# EAGLE library part N50P111 (library AMS-am5013)
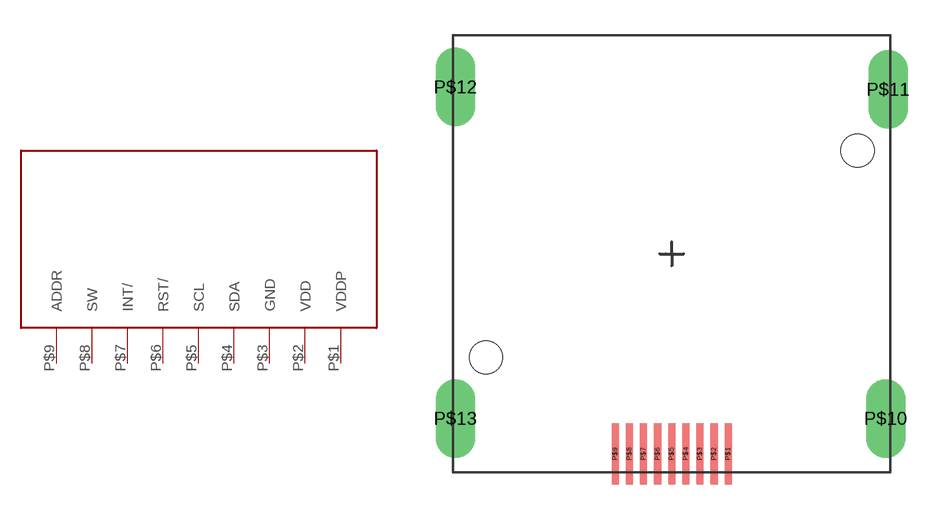
[diagram p2: symbol with the pads of N50P111; footprint N50P111]

Designator prefix -

## N50P111  [N50P111]
P$1  VDDP  pwr
P$2  VDD  pwr
P$3  GND  pwr
P$4  SDA
P$5  SCL
P$6  RST/  in
P$7  INT/
P$8  SW
P$9  ADDR  in

## Footprint N50P111 (pad centres in mm)
smd 0.3 x 2.6: P$1 2.4,-8.5; P$2 1.8,-8.5; P$3 1.2,-8.5; P$4 0.6,-8.5; P$5 0,-8.5; P$6 -0.6,-8.5; P$7 -1.2,-8.5; P$8 -1.8,-8.5; P$9 -2.4,-8.5
drill 0.8 pad 1.676 long: P$10 9.1,-7; P$11 9.2,7; P$12 -9.2,7.1; P$13 -9.2,-7
hole 1.4 at 7.9,4.4
hole 1.4 at -7.9,-4.4